# Altium footprint library PTA4543-PANEL.PcbLib: 1 footprints
Each footprint in its own frame and in the unit in brackets; x right, y up, seen from the top. Pads: shape width x height; smd on the part's side, far side on the other; paste and mask are expansions set on the pad; w line width, h text height; cw(c..) or ccw(c..) is an arc to the next point about the centre after c.
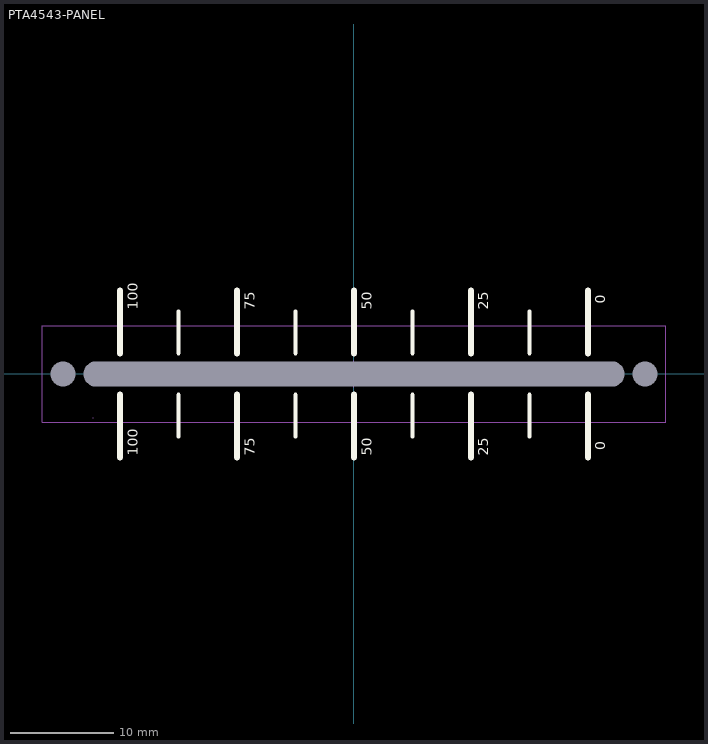
[diagram p0: the footprint, top view; thin cyan lines are the x and y axes]

## PTA4543-PANEL [mm] "Panel holes and slot for PTA4543"
height 6.5
pads (3):
  round 0 hole 2.4 unplated: 8(-28,0) 9(28,0)
  round 0 hole 2.4 slot 52 at 0 deg unplated: 10(0,0)
Top Overlay:
  lines w0.4: -16.875,-6 -16.875,-2 ; -16.875,2 -16.875,6 ; -5.625,-6 -5.625,-2 ; -5.625,2 -5.625,6 ; 5.625,-6 5.625,-2 ; 5.625,2 5.625,6 ; 16.875,-6 16.875,-2 ; 16.875,2 16.875,6
  lines w0.6: -22.5,-8 -22.5,-2 ; -22.5,2 -22.5,8 ; -11.25,-8 -11.25,-2 ; -11.25,2 -11.25,8 ; 0,-8 0,-2 ; 0,2 0,8 ; 11.25,-8 11.25,-2 ; 11.25,2 11.25,8 ; 22.5,-8 22.5,-2 ; 22.5,2 22.5,8
  text "100" at -20.813,-7.875 h1
  text "75" at -9.563,-7.875 h1
  text "50" at 1.687,-7.875 h1
  text "25" at 12.938,-7.875 h1
  text "0" at 24.188,-7.313 h1
  text "0" at 24.188,6.75 h1
  text "25" at 12.938,6.188 h1
  text "50" at 1.687,6.188 h1
  text "75" at -9.563,6.188 h1
  text "100" at -20.813,6.188 h1
Bottom Overlay:
  circle w1: c-29.337,4.064 r0.04
  lines w0.2: -30.607,-3.302 -30.607,-5.207 -28.702,-5.207 ; -30.607,3.302 -30.607,5.207 -28.702,5.207 ; 28.702,-5.207 30.607,-5.207 30.607,-3.302 ; 28.702,5.207 30.607,5.207 30.607,3.302
Mechanical 7:
  lines w0.1: -25.146,-4.2 -25.1,-4.2 ; -1.27,0 1.27,0 0,0 0,-1.27 0,1.27 ; -30,-4.65 -30,4.65 30,4.65 30,-4.65 -30,-4.65
Mechanical 13:
  lines w0.1: -25.146,-4.2 -25.1,-4.2 ; -30,-4.65 30,-4.65 30,4.65 -30,4.65 -30,-4.65
3D body "User Library-pta4543-2x15cpxxxx.step": height 14.5, standoff -10.5, extent -30,-4.65 30,4.65